# Altium footprint library INDPM110100X400N.PcbLib: 1 footprints
Each footprint in its own frame and in the unit in brackets; x right, y up, seen from the top. Pads: shape width x height; smd on the part's side, far side on the other; paste and mask are expansions set on the pad; w line width, h text height; cw(c..) or ccw(c..) is an arc to the next point about the centre after c.
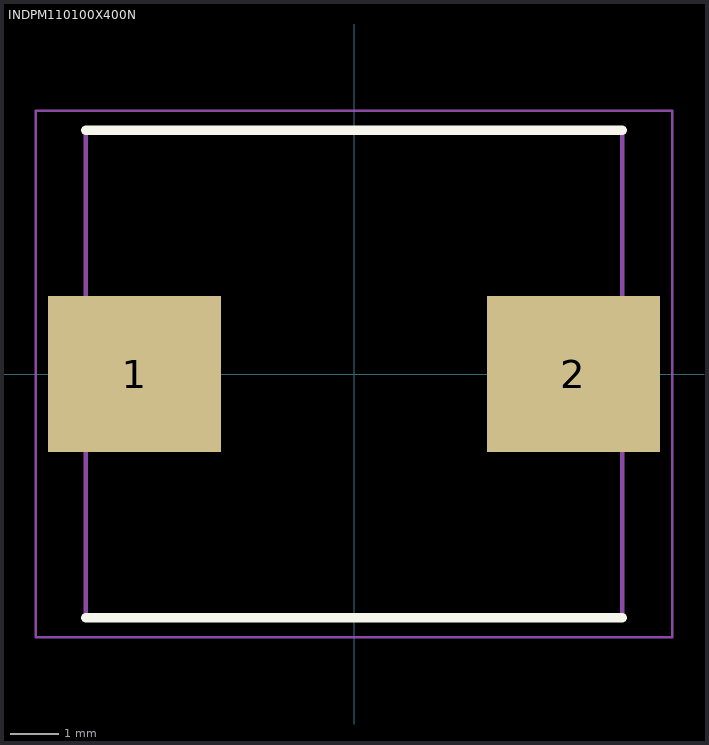
[diagram p0: the footprint, top view; thin cyan lines are the x and y axes]

## INDPM110100X400N [mm]
pads (2):
  rect 3.55x3.2 smd: 1(-4.5,0) 2(4.5,0)
Top Overlay:
  lines w0.2: -5.5,-5 5.5,-5 ; -5.5,5 5.5,5
Mechanical 15:
  lines w0.1: -5.5,-5 5.5,-5 5.5,5 -5.5,5 -5.5,-5
Mechanical 20:
  lines w0.05: -6.525,-5.4 6.525,-5.4 6.525,5.4 -6.525,5.4 -6.525,-5.4